# Altium footprint library DAQ.PcbLib: 36 footprints (part 2 of 3)
Each footprint in its own frame and in the unit in brackets; x right, y up, seen from the top. Pads: shape width x height; smd on the part's side, far side on the other; paste and mask are expansions set on the pad; w line width, h text height; cw(c..) or ccw(c..) is an arc to the next point about the centre after c.
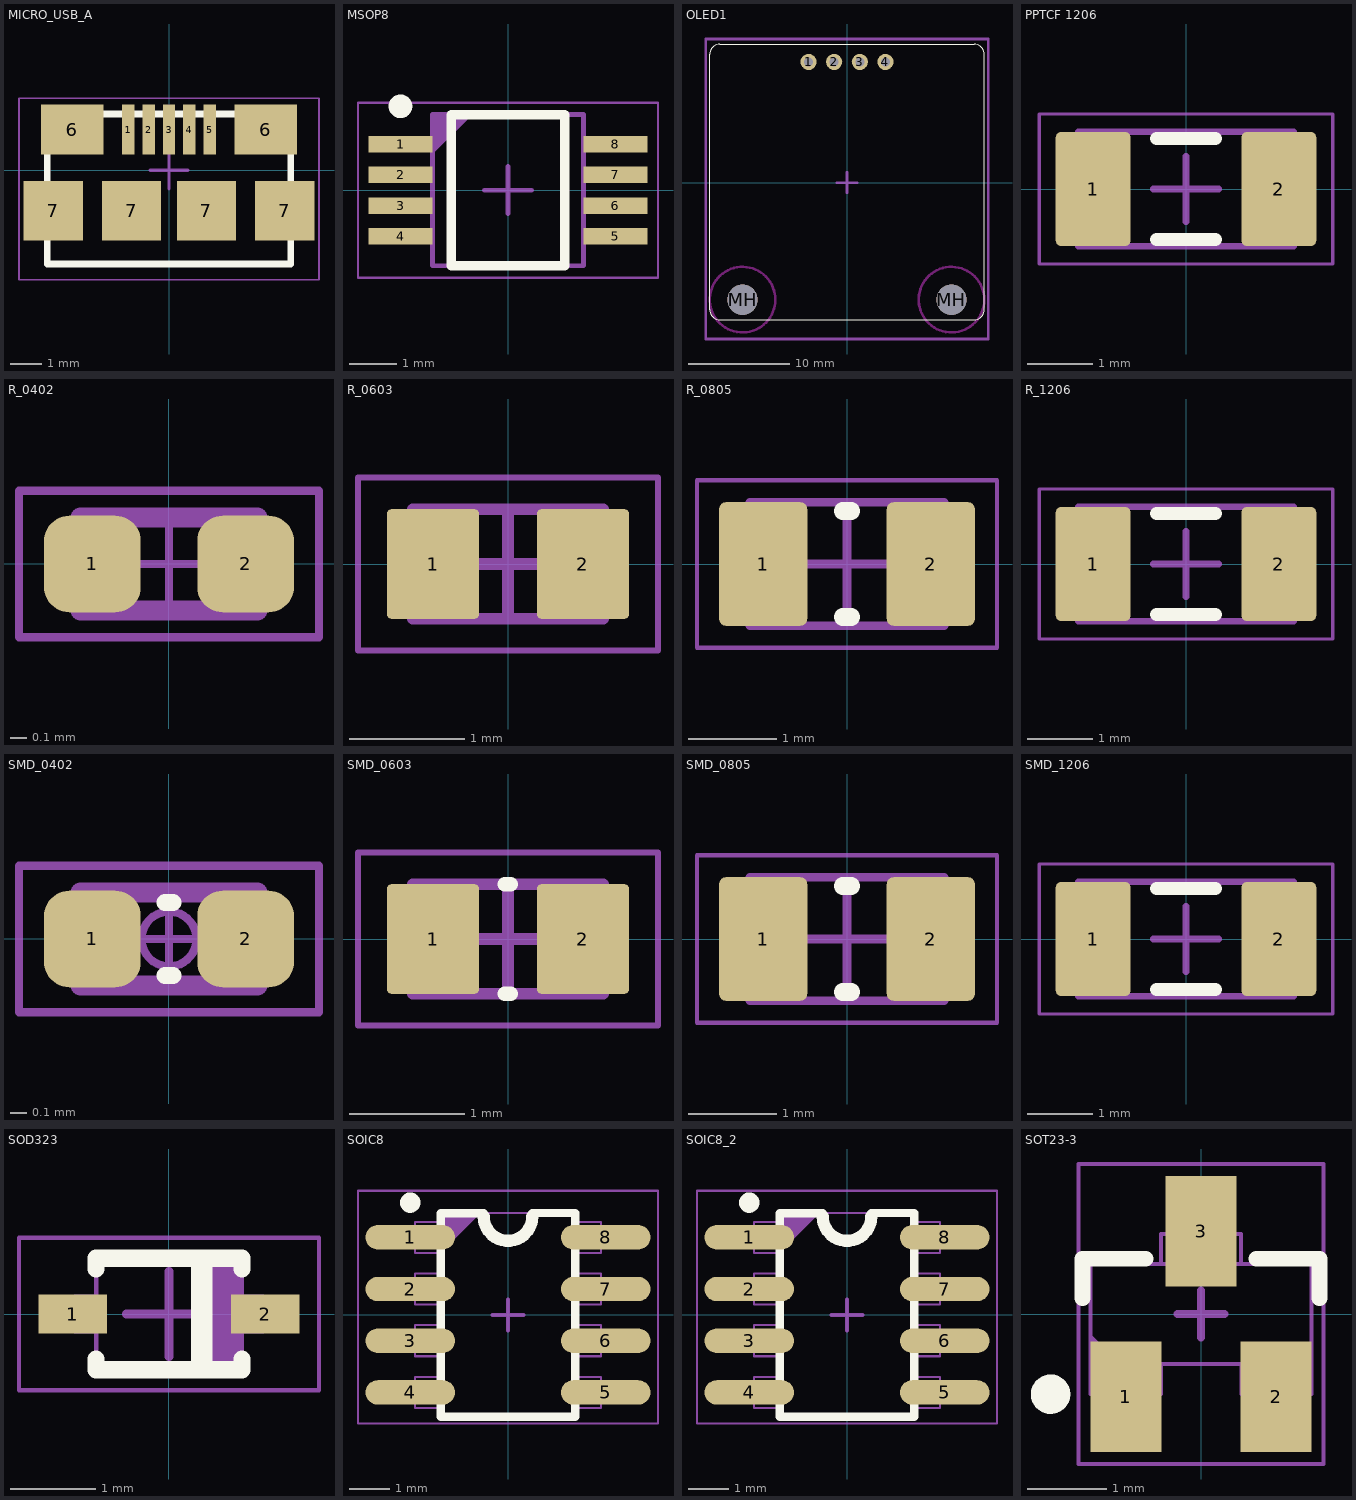
[diagram p1: the footprints below, top view; thin cyan lines are the x and y axes]

## MICRO_USB_A [mm]
pads (11):
  rect 0.4x1.6 smd: 1(-1.3,1.3) 2(-0.65,1.3) 3(0,1.3) 4(0.65,1.3) 5(1.3,1.3)
  rect 2x1.6 smd: 6(-3.1,1.3) 6(3.1,1.3)
  rect 1.9x1.9 smd: 7(-3.7,-1.3) 7(-1.2,-1.3) 7(1.2,-1.3) 7(3.7,-1.3)
Top Overlay:
  lines w0.21: -3.9,-3 -3.9,1.8 0,1.8 3.9,1.8 3.9,-3 -3.9,-3
Keep-Out Layer:
  lines w0.1: -3.9,-3 3.9,-3
Top Component Outline:
  lines w0.051: -3.9,-3 3.9,-3 3.9,1.8 0,1.8 -3.9,1.8 -3.9,-3
Top Courtyard:
  lines w0.05: -4.8,-3.5 0,-3.5 4.8,-3.5 4.8,2.3 -4.8,2.3 -4.8,-3.5
  lines w0.1: -0.6,0 0,0 ; 0,-0.6 0,0 ; 0,0.6 0,0 ; 0.6,0 0,0
3D body "10118192.step": height 2.71, standoff -0.3, extent -3.956,-4.061 3.956,1.6

## MSOP8 [mm]
pads (8):
  rect 1.35x0.35 smd: 1(-2.275,0.975) 2(-2.275,0.325) 3(-2.275,-0.325) 4(-2.275,-0.975) 5(2.275,-0.975) 6(2.275,-0.325) 7(2.275,0.325) 8(2.275,0.975)
Top Overlay:
  circle w0.25: c-2.275,1.775 r0.125
  lines w0.2: -1.2,-1.6 -1.2,1.6 1.2,1.6 1.2,-1.6 -1.2,-1.6
Board outline:
  region: -0.762,1.6 -1.6,0.762 -1.6,1.6
  lines w0.1: -1.6,-1.6 -1.6,1.6 1.6,1.6 1.6,-1.6 -1.6,-1.6
Mechanical 19:
  lines w0.05: -3.175,-1.85 -3.175,1.85 3.175,1.85 3.175,-1.85 -3.175,-1.85
  lines w0.1: -0.5,0 0.5,0 ; 0,-0.5 0,0.5
3D body "MSOP8.STEP": height 1.01, standoff 0, extent -2.575,-1.6 2.575,1.6

## OLED1 [mm]
pads (6):
  round 1.6 hole 0.9: 1(-3.81,11.95) 2(-1.27,11.95) 3(1.27,11.95) 4(3.81,11.95)
  round 3 hole 3 unplated: MH(-10.35,-11.6) MH(10.35,-11.6)
Top Overlay:
  lines w0.1: -13.6,-12.6 ccw(c-12.6,-12.6) -12.6,-13.6 12.6,-13.6 ccw(c12.6,-12.6) 13.6,-12.6 13.6,12.7 ccw(c12.6,12.7) 12.6,13.7 -12.6,13.7 ccw(c-12.6,12.7) -13.6,12.7 -13.6,-12.6
Top Solder:
  circle w3.25: c-10.35,-11.6 r1.625
  circle w3.25: c10.35,-11.6 r1.625
Bottom Solder:
  circle w3.25: c10.35,-11.6 r1.625
  circle w3.25: c-10.35,-11.6 r1.625
Keep-Out Layer:
  circle w0.254: c10.35,-11.6 r3.25
  circle w0.254: c-10.35,-11.6 r3.25
Top Courtyard:
  lines w0.254: -1,0 1,0 ; 0,-1 0,1 ; -14,-15.5 14,-15.5 14,14.224 -14,14.224 -14,-15.5
3D body: height 3.6, standoff 2.8, extent -13.6,-13.6 13.6,13.7
3D body: height 4.2, standoff 3.6, extent -13,-9.4 13,8.6
3D body "Samtec-TSW-101-07-G-S.step": height 5.09, standoff -5.83, extent -5.08,10.68 -2.54,13.22
3D body "Samtec-TSW-101-07-G-S.step": height 5.09, standoff -5.83, extent 0,10.68 2.54,13.22
3D body "Samtec-TSW-101-07-G-S.step": height 5.09, standoff -5.83, extent 2.54,10.68 5.08,13.22
3D body "Samtec-TSW-101-07-G-S.step": height 5.09, standoff -5.83, extent -2.54,10.68 0,13.22

## PPTCF 1206 [mm] "PPTC fuse 2-Leads, Body 3.15x1.60mm, IPC Medium Density"
height 0.6
pads (2):
  rrect15% 1.15x1.75 smd: 1(-1.425,0) 2(1.425,0)
Top Overlay:
  lines w0.2: -0.45,-0.775 0.45,-0.775 ; -0.45,0.775 0.45,0.775
Top Component Outline:
  lines w0.1: -1.65,-0.875 1.65,-0.875 1.65,0.875 -1.65,0.875 -1.65,-0.875
Top Courtyard:
  lines w0.05: -2.25,-1.15 2.25,-1.15 2.25,1.15 -2.25,1.15 -2.25,-1.15
  lines w0.1: -0.5,0 0.5,0 ; 0,-0.5 0,0.5
3D body "SMD_Polyfuse_1206.stp": height 0.59, standoff 0.01, extent -1.6,-0.825 1.6,0.825

## R_0402 [mm] "Resistor, Chip; 1.00 mm L X 0.50 mm W X 0.40 mm H body"
height 0.4
pads (2):
  rrect52% 0.58x0.58 smd: 1(-0.46,0) 2(0.46,0)
Top Component Outline:
  lines w0.025: -0.5,-0.25 0.5,-0.25 0.5,0.25 -0.5,0.25 -0.5,-0.25
Top Courtyard:
  lines w0.05: -0.22,0 0.22,0 ; 0,-0.22 0,0.22 ; -0.9,-0.44 0.9,-0.44 0.9,0.44 -0.9,0.44 -0.9,-0.44
Mechanical 19:
  lines w0.025: -0.5,-0.25 -0.5,0.25 -0.25,0.25 -0.25,-0.25 -0.5,-0.25 ; 0.25,-0.25 0.5,-0.25 0.5,0.25 0.25,0.25 0.25,-0.25
Mechanical 21:
  lines w0.12: -0.53,-0.28 0.53,-0.28 0.53,0.28 -0.53,0.28 -0.53,-0.28
3D body "R1005_0402I_N.STEP": height 0.4, standoff 0, extent -0.5,-0.25 0.5,0.25

## R_0603 [mm] "Chip Resistor, 2-Leads, Body 1.57x0.85mm, IPC Medium Density"
height 0.5
pads (2):
  rrect10% 0.8x0.95 smd: 1(-0.65,0) 2(0.65,0)
Top Component Outline:
  lines w0.1: -0.825,-0.475 -0.825,0.475 0.825,0.475 0.825,-0.475 -0.825,-0.475
Top Courtyard:
  lines w0.05: -1.3,-0.75 -1.3,0.75 1.3,0.75 1.3,-0.75 -1.3,-0.75
  lines w0.1: -0.475,0 0.475,0 ; 0,-0.475 0,0.475
3D body "R0603(1608)_N.step": height 0.5, standoff 0, extent -0.825,-0.475 0.825,0.475

## R_0805 [mm] "Chip Resistor, 2-Leads, Body 2.05x1.25mm, IPC Medium Density"
height 0.8
pads (2):
  rrect15% 1x1.4 smd: 1(-0.95,0) 2(0.95,0)
Top Overlay:
  lines w0.2: -0.05,-0.6 0.05,-0.6 ; -0.05,0.6 0.05,0.6
Top Component Outline:
  lines w0.1: -1.1,-0.7 1.1,-0.7 1.1,0.7 -1.1,0.7 -1.1,-0.7
Top Courtyard:
  lines w0.05: -1.7,-0.95 1.7,-0.95 1.7,0.95 -1.7,0.95 -1.7,-0.95
  lines w0.1: -0.5,0 0.5,0 ; 0,-0.5 0,0.5
3D body "R0805_N.step": height 0.8, standoff 0, extent -1.1,-0.7 1.1,0.7

## R_1206 [mm] "Chip Resistor, 2-Leads, Body 3.15x1.60mm, IPC Medium Density"
height 0.6
pads (2):
  rrect15% 1.15x1.75 smd: 1(-1.425,0) 2(1.425,0)
Top Overlay:
  lines w0.2: -0.45,-0.775 0.45,-0.775 ; -0.45,0.775 0.45,0.775
Top Component Outline:
  lines w0.1: -1.65,-0.875 -1.65,0.875 1.65,0.875 1.65,-0.875 -1.65,-0.875
Top Courtyard:
  lines w0.05: -2.25,-1.15 -2.25,1.15 2.25,1.15 2.25,-1.15 -2.25,-1.15
  lines w0.1: -0.5,0 0.5,0 ; 0,-0.5 0,0.5
3D body "R1206(3216)_N.step": height 0.6, standoff 0, extent -1.65,-0.875 1.65,0.875

## SMD_0402 [mm] "Chip; 1.00 mm L X 0.50 mm W X 0.40 mm H body"
height 0.4
pads (2):
  rrect52% 0.58x0.58 smd: 1(-0.46,0) 2(0.46,0)
Top Overlay:
  lines w0.102: -0.025,-0.22 0.025,-0.22 ; -0.025,0.22 0.025,0.22
Top Component Outline:
  lines w0.025: -0.5,-0.25 -0.5,0.25 0.5,0.25 0.5,-0.25 -0.5,-0.25
  lines w0.12: -0.53,-0.28 -0.53,0.28 0.53,0.28 0.53,-0.28 -0.53,-0.28
Top Courtyard:
  circle w0.05: c0,0 r0.165
  lines w0.05: -0.22,0 0.22,0 ; 0,-0.22 0,0.22 ; -0.9,-0.44 -0.9,0.44 0.9,0.44 0.9,-0.44 -0.9,-0.44
3D body "R1005_0402I_N.STEP": height 0.4, standoff 0, extent -0.5,-0.25 0.5,0.25

## SMD_0603 [mm] "Chip 2-Leads, Body 1.57x0.85mm, IPC Medium Density"
height 0.5
pads (2):
  rrect10% 0.8x0.95 smd: 1(-0.65,0) 2(0.65,0)
Top Overlay:
  lines w0.127: -0.025,-0.475 0.025,-0.475 ; -0.025,0.475 0.025,0.475
Top Component Outline:
  lines w0.1: -0.825,-0.475 0.825,-0.475 0.825,0.475 -0.825,0.475 -0.825,-0.475
Top Courtyard:
  lines w0.05: -1.3,-0.75 1.3,-0.75 1.3,0.75 -1.3,0.75 -1.3,-0.75
  lines w0.1: -0.475,0 0.475,0 ; 0,-0.475 0,0.475
3D body "R0603(1608)_N.step": height 0.5, standoff 0, extent -0.825,-0.475 0.825,0.475

## SMD_0805 [mm] "Chip 2-Leads, Body 2.05x1.25mm, IPC Medium Density"
height 0.8
pads (2):
  rrect15% 1x1.4 smd: 1(-0.95,0) 2(0.95,0)
Top Overlay:
  lines w0.2: -0.05,-0.6 0.05,-0.6 ; -0.05,0.6 0.05,0.6
Top Component Outline:
  lines w0.1: -1.1,-0.7 -1.1,0.7 1.1,0.7 1.1,-0.7 -1.1,-0.7
Top Courtyard:
  lines w0.05: -1.7,-0.95 -1.7,0.95 1.7,0.95 1.7,-0.95 -1.7,-0.95
  lines w0.1: -0.5,0 0.5,0 ; 0,-0.5 0,0.5
3D body "R0805_N.step": height 0.8, standoff 0, extent -1.1,-0.7 1.1,0.7

## SMD_1206 [mm] "Chip 2-Leads, Body 3.15x1.60mm, IPC Medium Density"
height 0.6
pads (2):
  rrect15% 1.15x1.75 smd: 1(-1.425,0) 2(1.425,0)
Top Overlay:
  lines w0.2: -0.45,-0.775 0.45,-0.775 ; -0.45,0.775 0.45,0.775
Top Component Outline:
  lines w0.1: -1.65,-0.875 1.65,-0.875 1.65,0.875 -1.65,0.875 -1.65,-0.875
Top Courtyard:
  lines w0.05: -2.25,-1.15 2.25,-1.15 2.25,1.15 -2.25,1.15 -2.25,-1.15
  lines w0.1: -0.5,0 0.5,0 ; 0,-0.5 0,0.5
3D body "R1206(3216)_N.step": height 0.6, standoff 0, extent -1.65,-0.875 1.65,0.875

## SOD323 [mm]
pads (2):
  rect 0.8x0.45 smd: 1(-1.125,0) 2(1.125,0)
Top Overlay:
  rectangle: 0.254,-0.635 0.508,0.635
  lines w0.2: -0.85,-0.525 -0.85,-0.65 0.85,-0.65 0.85,-0.525 ; -0.85,0.525 -0.85,0.65 0.85,0.65 0.85,0.525
Top Component Outline:
  rectangle: 0.4,-0.65 0.85,0.625
  rectangle: 0.4,-0.65 0.85,0.625
  lines w0.051: -0.85,-0.2 -1.1,-0.2 -1.1,-0.1 -1.1,0.2 -0.85,0.2 ; 0.85,-0.2 1.1,-0.2 1.1,-0.1 1.1,0.2 0.85,0.2 ; -0.85,-0.625 0.85,-0.625 0.85,0.625 -0.85,0.625 -0.85,-0.625
Top Courtyard:
  lines w0.05: -1.75,-0.889 1.75,-0.889 1.75,0.889 -1.75,0.889 -1.75,-0.889
  lines w0.1: -0.5,0 0.5,0 ; 0,-0.5 0,0.5
3D body: height 0.9, standoff 0, extent -0.85,-0.625 0.85,0.625

## SOIC8 [mm]
pads (8):
  oval 2.2x0.6 smd: 1(-2.4,1.905) 2(-2.4,0.635) 3(-2.4,-0.635) 4(-2.4,-1.905) 5(2.4,-1.905) 6(2.4,-0.635) 7(2.4,0.635) 8(2.4,1.905)
Top Overlay:
  circle w0.25: c-2.4,2.755 r0.125
  lines w0.2: -0.9,-2.5 0.9,-2.5 ; 0.595,2.5 1.651,2.5
  lines w0.21: -0.9,-2.5 -1.651,-2.5 -1.651,2.5 -0.595,2.5 ; 0.9,-2.5 1.651,-2.5 1.651,2.5
  lines w0.3: -0.595,2.413 ccw(c0,2.413) 0.595,2.413
Top Component Outline:
  region: -0.665,2.51 -1.621,1.554 -1.621,2.51
  lines w0.05: -1.651,-2.286 -2.286,-2.286 -2.286,-1.524 -1.651,-1.524 ; -1.651,-1.016 -2.286,-1.016 -2.286,-0.254 -1.651,-0.254 ; -1.651,0.254 -2.286,0.254 -2.286,1.016 -1.651,1.016 ; -1.651,1.524 -2.286,1.524 -2.286,2.286 -1.651,2.286 ; 1.651,-2.286 2.286,-2.286 2.286,-1.524 1.651,-1.524 ; 1.651,-1.016 2.286,-1.016 2.286,-0.254 1.651,-0.254 ; 1.651,0.254 2.286,0.254 2.286,1.016 1.651,1.016 ; 1.651,1.524 2.286,1.524 2.286,2.286 1.651,2.286 ; -1.651,-2.5 1.651,-2.5 1.651,2.5 -1.651,2.5 -1.651,-2.5
Top Courtyard:
  lines w0.05: -3.683,-2.667 -3.683,3.048 3.683,3.048 3.683,-2.667 -3.683,-2.667
  lines w0.1: -0.381,0 0,0 ; 0,-0.381 0,0 ; 0,0.381 0,0 ; 0.381,0 0,0
3D body "so8.STEP": height 1.45, standoff 0, extent -2.889,-2.413 2.889,2.489

## SOIC8_2 [mm]
pads (8):
  oval 2.2x0.6 smd: 1(-2.4,1.905) 2(-2.4,0.635) 3(-2.4,-0.635) 4(-2.4,-1.905) 5(2.4,-1.905) 6(2.4,-0.635) 7(2.4,0.635) 8(2.4,1.905)
Top Overlay:
  circle w0.25: c-2.4,2.755 r0.125
  lines w0.2: -0.9,-2.5 0.9,-2.5 ; 0.595,2.5 1.651,2.5
  lines w0.21: -0.9,-2.5 -1.651,-2.5 -1.651,2.5 -0.595,2.5 ; 0.9,-2.5 1.651,-2.5 1.651,2.5
  lines w0.3: -0.595,2.413 ccw(c0,2.413) 0.595,2.413
Top Component Outline:
  region: -0.665,2.51 -1.621,1.554 -1.621,2.51
  lines w0.05: -1.651,-2.286 -2.286,-2.286 -2.286,-1.524 -1.651,-1.524 ; -1.651,-1.016 -2.286,-1.016 -2.286,-0.254 -1.651,-0.254 ; -1.651,0.254 -2.286,0.254 -2.286,1.016 -1.651,1.016 ; -1.651,1.524 -2.286,1.524 -2.286,2.286 -1.651,2.286 ; 1.651,-2.286 2.286,-2.286 2.286,-1.524 1.651,-1.524 ; 1.651,-1.016 2.286,-1.016 2.286,-0.254 1.651,-0.254 ; 1.651,0.254 2.286,0.254 2.286,1.016 1.651,1.016 ; 1.651,1.524 2.286,1.524 2.286,2.286 1.651,2.286 ; -1.651,-2.5 -1.651,2.5 1.651,2.5 1.651,-2.5 -1.651,-2.5
Top Courtyard:
  lines w0.05: -3.683,-2.667 3.683,-2.667 3.683,3.048 -3.683,3.048 -3.683,-2.667
  lines w0.1: -0.381,0 0,0 ; 0,-0.381 0,0 ; 0,0.381 0,0 ; 0.381,0 0,0
3D body "so8.STEP": height 1.45, standoff 0, extent -2.889,-2.413 2.889,2.489

## SOT23-3 [mm]
pads (3):
  rect 0.9x1.4 smd: 1(-0.95,-1.05) 2(0.95,-1.05) 3(0,1.05)
Top Overlay:
  circle w0.25: c-1.905,-1.016 r0.125
  lines w0.2: -1.5,0.2 -1.5,0.7 -0.7,0.7 ; 0.7,0.7 1.5,0.7 1.5,0.2
Top Component Outline:
  region: -1.397,-0.254 -1.016,-0.635 -1.397,-0.635
  lines w0.05: -1.397,-0.635 -1.397,-1.016 -0.508,-1.016 -0.508,-0.635 ; -0.508,0.635 -0.508,1.016 -0.127,1.016 0.508,1.016 0.508,0.635 ; 0.511,-0.635 0.511,-1.016 1.4,-1.016 1.4,-0.635
  lines w0.051: -1.397,-0.635 1.4,-0.635 1.4,0.635 -1.397,0.635 -1.397,-0.635
Top Courtyard:
  lines w0.05: -1.55,-1.9 -1.55,-0.35 -1.55,1.9 0.35,1.9 1.55,1.9 1.55,-0.35 1.55,-1.9 0.35,-1.9 -1.55,-1.9
  lines w0.1: -0.3,0 0,0 ; 0,-0.3 0,0 ; 0,0.3 0,0 ; 0.3,0 0,0
3D body "SOT23-3.step": height 1.3, standoff 0, extent -1.45,-1.4 1.45,1.4